# Altium footprint library Capacitors.PcbLib: 3 footprints
Each footprint in its own frame and in the unit in brackets; x right, y up, seen from the top. Pads: shape width x height; smd on the part's side, far side on the other; paste and mask are expansions set on the pad; w line width, h text height; cw(c..) or ccw(c..) is an arc to the next point about the centre after c.
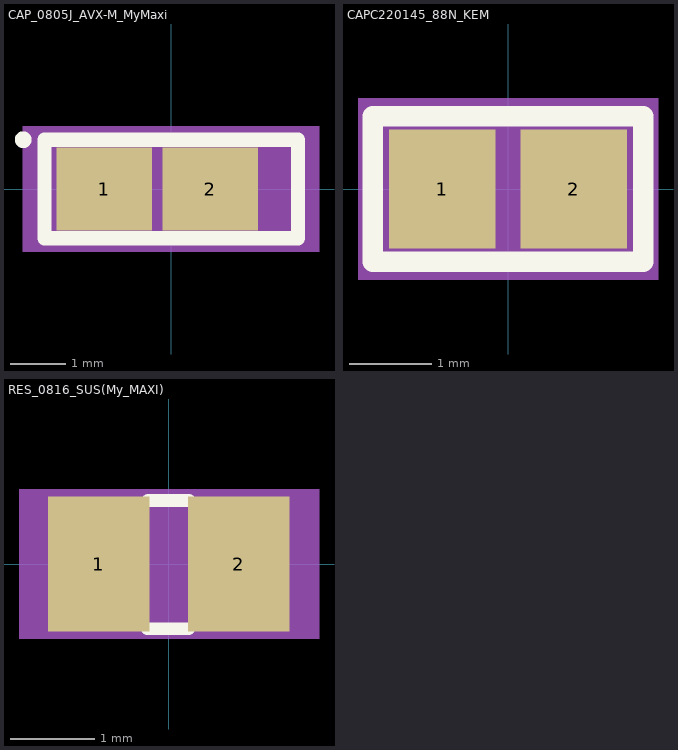
[diagram p0: the footprints below, top view; thin cyan lines are the x and y axes]

## CAP_0805J_AVX-M_MyMaxi [mil]
pads (2):
  rect 67.76x59 smd paste+0 mask+0: 1(-47.36,0) 2(27.68,0)
Top Overlay:
  circle w6: c-105,35 r3
  lines w10: -90,-35 90,-35 90,35 -90,35 -90,-35
Mechanical 5:
  region: 105.04,-44.5 -105.27,-44.5 -105.27,44.5 105.04,44.5
Mechanical 13:
  circle w0: c-33.5,0 r3
  lines w1: -43.5,-28.5 -43.5,28.5 ; -43.5,-28.5 -13.5,-28.5 -13.5,28.5 -43.5,28.5 ; -43.5,-28.5 43.5,-28.5 ; -43.5,-28.5 -43.5,28.5 ; -43.5,28.5 43.5,28.5 ; 43.5,-28.5 13.5,-28.5 13.5,28.5 43.5,28.5 ; 43.5,-28.5 43.5,28.5 ; 43.5,-28.5 43.5,28.5
3D body "CAP_0805J_AVX.step": height 37.01, standoff 0, extent -43.5,-28.5 43.51,28.51

## CAPC220145_88N_KEM [mm]
pads (2):
  rect 1.3x1.45 smd paste+0 mask+0: 1(-0.8,0) 2(0.8,0)
Top Overlay:
  lines w0.254: -1.651,-0.889 -1.651,0.889 1.651,0.889 1.651,-0.889 -1.651,-0.889
Mechanical 5:
  region: 1.831,-1.106 -1.831,-1.106 -1.831,1.106 1.831,1.106
Mechanical 13:
  lines w0.025: -1.1,-0.725 -1.1,0.725 ; -1.1,-0.725 -0.35,-0.725 -0.35,0.725 -1.1,0.725 ; -1.1,-0.725 1.1,-0.725 ; -1.1,-0.725 -1.1,0.725 ; -1.1,0.725 1.1,0.725 ; 1.1,-0.725 0.35,-0.725 0.35,0.725 1.1,0.725 ; 1.1,-0.725 1.1,0.725 ; 1.1,-0.725 1.1,0.725
3D body "CAPC220145_88N_KEM.step": height 0.88, standoff 0, extent -1.1,-0.725 1.1,0.725

## RES_0816_SUS(My_MAXI) [mm]
pads (2):
  rect 1.2x1.6 smd paste+0 mask+0: 1(-0.827,0) 2(0.827,0)
Top Overlay:
  lines w0.152: -0.251,-0.765 0.234,-0.765 ; -0.246,0.752 0.239,0.752
Mechanical 5:
  region: 1.775,-0.881 -1.768,-0.881 -1.768,0.881 1.775,0.881
Mechanical 13:
  lines w0.025: -0.9,-0.5 -0.9,0.5 ; -0.9,-0.5 -0.55,-0.5 -0.55,0.5 -0.9,0.5 ; -0.9,-0.5 0.9,-0.5 ; -0.9,-0.5 -0.9,0.5 ; -0.9,0.5 0.9,0.5 ; 0.9,-0.5 0.55,-0.5 0.55,0.5 0.9,0.5 ; 0.9,-0.5 0.9,0.5 ; 0.9,-0.5 0.9,0.5
Mechanical 15:
  region: 1.357,-0.754 -1.357,-0.754 -1.357,0.754 1.357,0.754
  lines w0.152: -1.357,-0.754 -1.357,0.754 1.357,0.754 1.357,-0.754 -1.357,-0.754
3D body "CAPC220145_88N_KEM.step": height 0.88, standoff 0, extent -1.1,-0.725 1.1,0.725